# EAGLE library part MIC2289 (library mic2289)
MIC2289
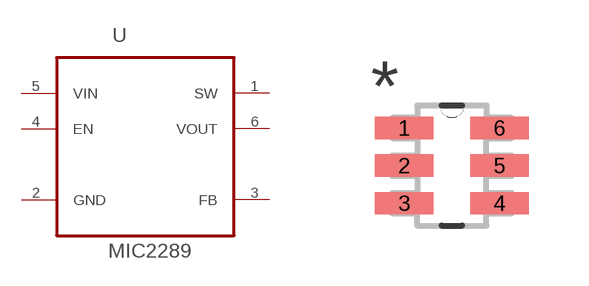
[diagram p0: symbol with the pads of SOT-23; footprint SOT-23]

Designator prefix -

## MIC2289  [SOT-23]
1  SW  pas
2  GND  pas
3  FB  pas
4  EN  pas
5  VIN  pas
6  VOUT  pas

## Footprint SOT-23 (pad centres in mm)
smd 1.473 x 0.559: 1 -1.194,0.94; 2 -1.194,0; 3 -1.194,-0.94; 4 1.194,-0.94; 5 1.194,0; 6 1.194,0.94